# Altium schematic symbol library SCH - POWER - LINEAR VREG - TI TPS7A5401RPS.SchLib: 1 symbol
Pins are listed as number, name and electrical type; pins without a type are passive.

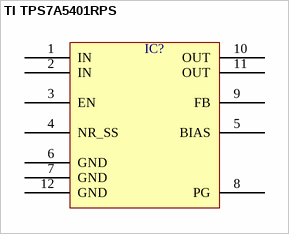
[diagram p0: symbol TI TPS7A5401RPS]

## TI TPS7A5401RPS
designator IC?  (value not drawn)
pins: 1 IN, 2 IN, 3 EN, 4 NR_SS, 5 BIAS, 6 GND, 7 GND, 8 PG, 9 FB, 10 OUT, 11 OUT, 12 GND